# EAGLE library part ATMELISP (library my_library)
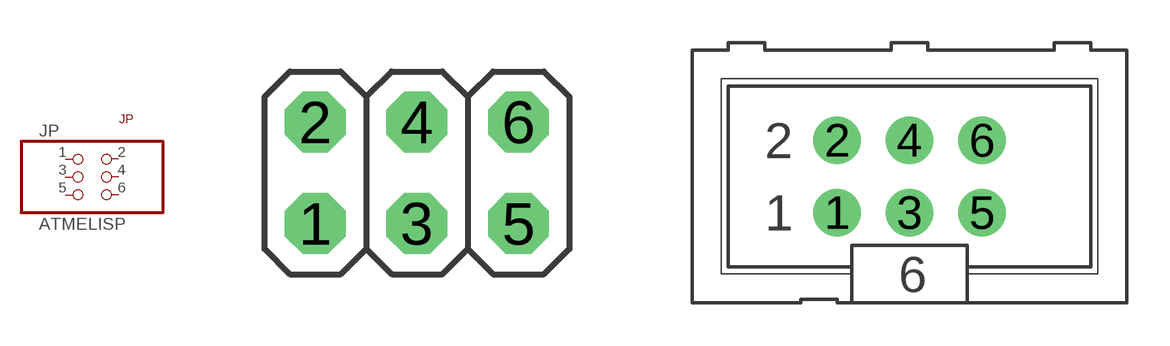
[diagram p3: symbol with the pads of 2X03; footprints 2X03, ML6]

Designator prefix JP

## ATMELISP2X03  [2X03]
1  MISO  pas
2  VCC  pas
3  SCK  pas
4  MOSI  pas
5  RESET  pas
6  GND  pas

## ATMELISPML  [ML6]
Pads as for 2X03

## Footprint 2X03 (pad centres in mm)
drill 1.016 octagon: 1 -2.54,-1.27; 2 -2.54,1.27; 3 0,-1.27; 4 0,1.27; 5 2.54,-1.27; 6 2.54,1.27

## Footprint ML6 (pad centres in mm)
drill 0.914 pad 1.676 round: 1 -2.54,-1.27; 2 -2.54,1.27; 3 0,-1.27; 4 0,1.27; 5 2.54,-1.27; 6 2.54,1.27